# Altium footprint library CON EHF-120-01-x-D-RA.PcbLib: 1 footprints
Each footprint in its own frame and in the unit in brackets; x right, y up, seen from the top. Pads: shape width x height; smd on the part's side, far side on the other; paste and mask are expansions set on the pad; w line width, h text height; cw(c..) or ccw(c..) is an arc to the next point about the centre after c.
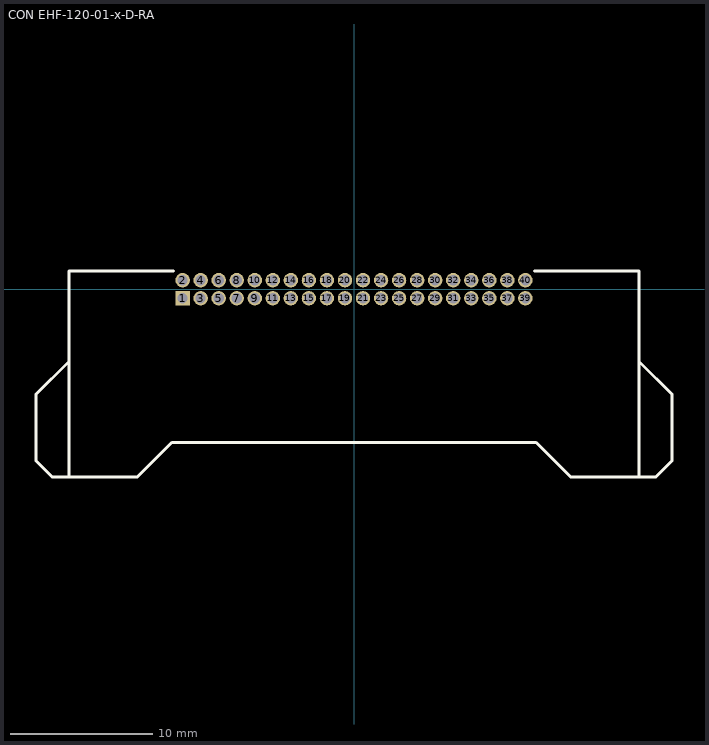
[diagram p0: the footprint, top view; thin cyan lines are the x and y axes]

## CON EHF-120-01-x-D-RA [mil] "Samtec EHF-120-01-x-D-RA Right Angle Connector"
pads (40):
  rect 40x40 hole 28: 1(-475,-25)
  round 40 hole 28: 2(-475,25) 3(-425,-25) 4(-425,25) 5(-375,-25) 6(-375,25) 7(-325,-25) 8(-325,25) 9(-275,-25) 10(-275,25) 11(-225,-25) 12(-225,25) 13(-175,-25) 14(-175,25) 15(-125,-25) 16(-125,25) 17(-75,-25) 18(-75,25) 19(-25,-25) 20(-25,25) 21(25,-25) 22(25,25) 23(75,-25) 24(75,25) 25(125,-25) 26(125,25) 27(175,-25) 28(175,25) 29(225,-25) 30(225,25) 31(275,-25) 32(275,25) 33(325,-25) 34(325,25) 35(375,-25) 36(375,25) 37(425,-25) 38(425,25) 39(475,-25) 40(475,25)
TopOverlay:
  lines w8: -790,-200 -882,-292 -882,-475 -837,-520 -790,-520 ; -500,50 -790,50 -790,-520 ; 500,50 790,50 790,-520 ; 790,-200 882,-292 882,-475 837,-520 790,-520 ; -790,-520 -600,-520 -505,-425 505,-425 600,-520 790,-520
3D body: height 263.1, standoff -89.37, extent -785,-520.3 785,33